# Altium footprint library PCB - CONNECTOR - NET TIE 1 TO 1.PCBLIB: 1 footprints
Each footprint in its own frame and in the unit in brackets; x right, y up, seen from the top. Pads: shape width x height; smd on the part's side, far side on the other; paste and mask are expansions set on the pad; w line width, h text height; cw(c..) or ccw(c..) is an arc to the next point about the centre after c.
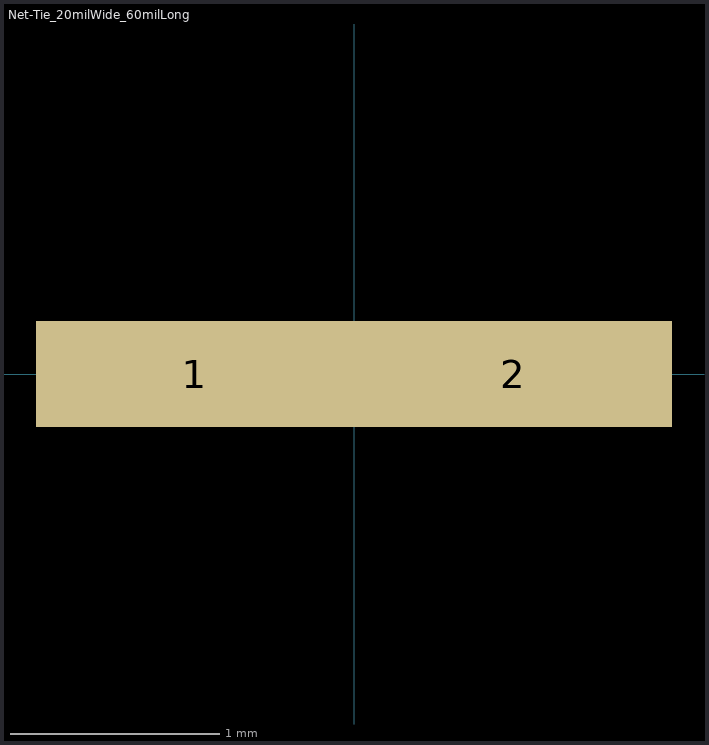
[diagram p0: the footprint, top view; thin cyan lines are the x and y axes]

## Net-Tie_20milWide_60milLong [mil] "20mil net tie, no solder mask opening, no solder paste"
pads (2):
  rect 60x20 smd paste-10 mask-10: 1(-30,0) 2(30,0)